# Altium schematic symbol library openmv-ae3.SCHLIB: 91 symbols
Pins are listed as number, name and electrical type; pins without a type are passive.

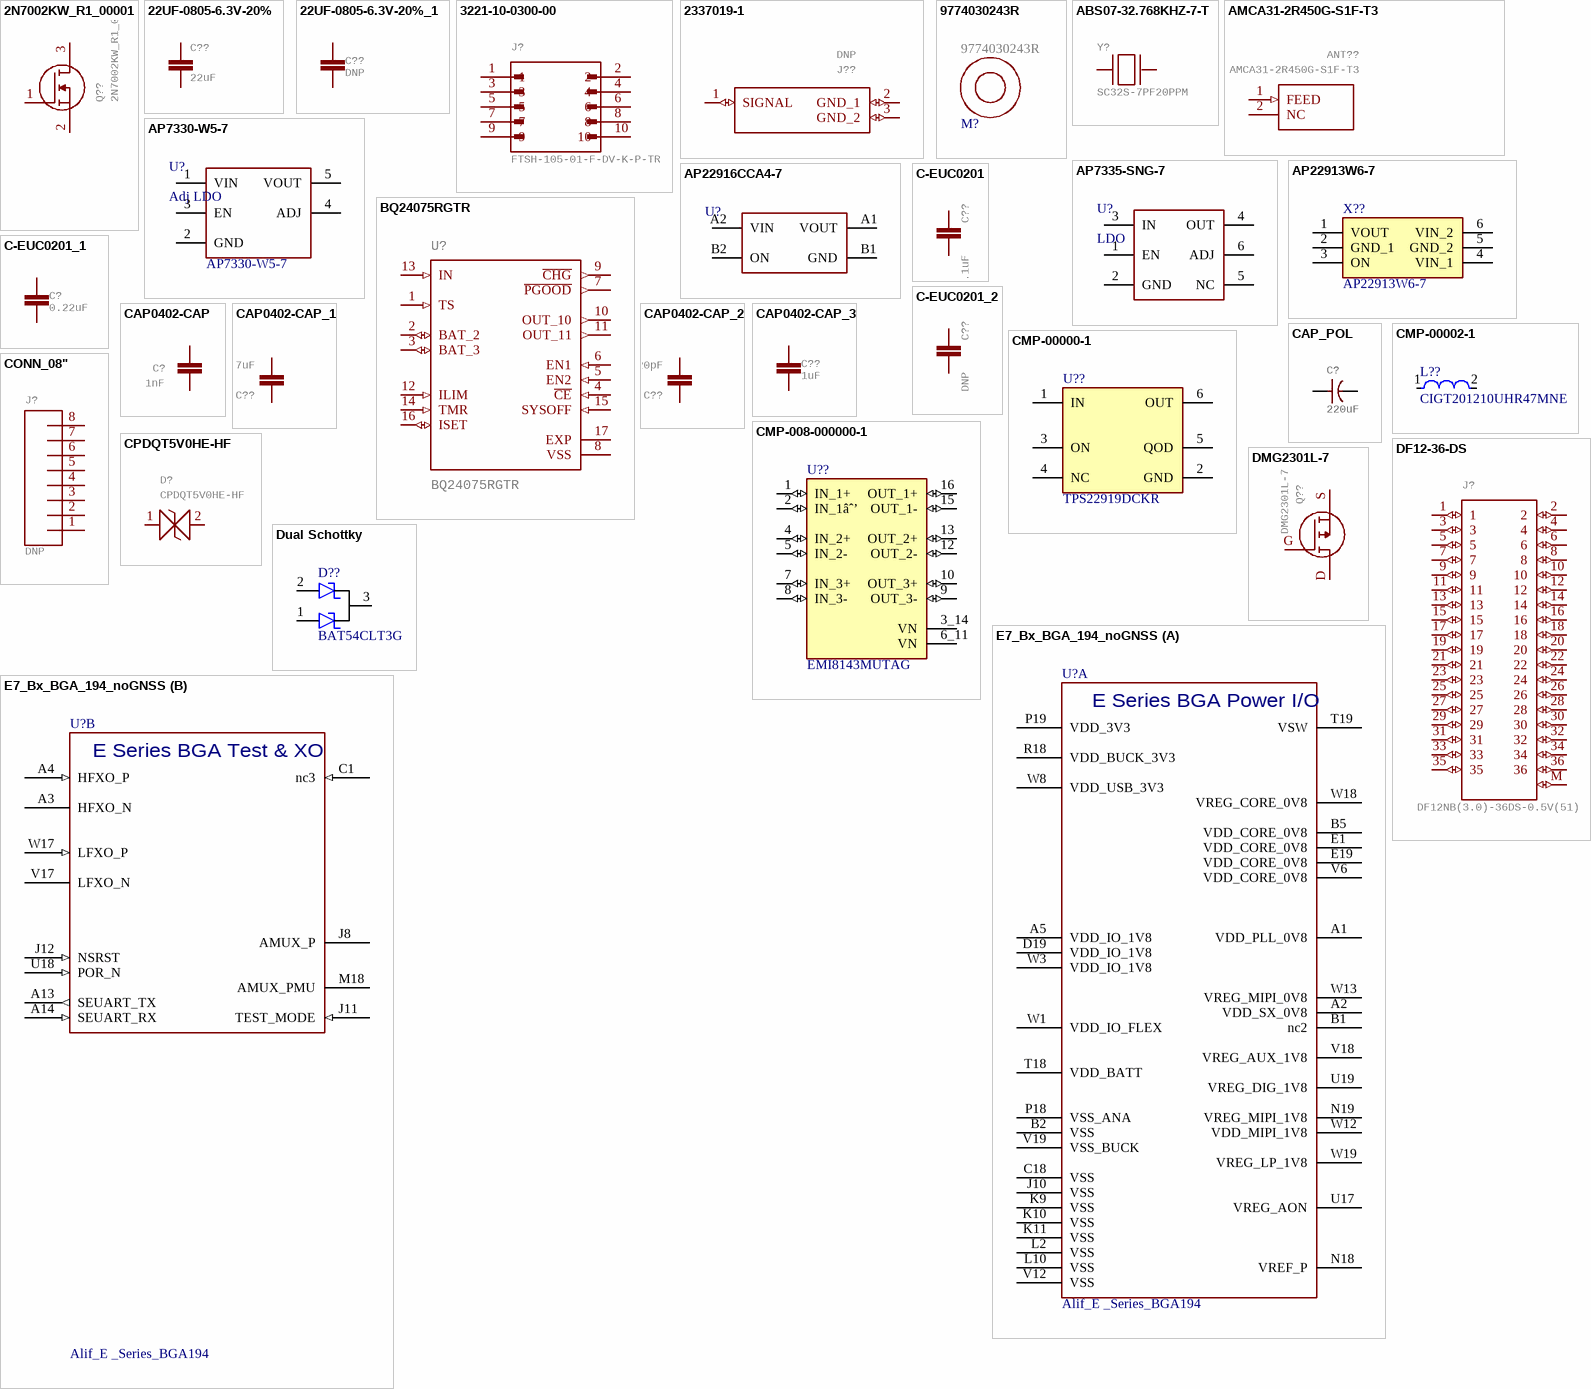
[diagram p0: symbols 2N7002KW_R1_00001 to E7_Bx_BGA_194_noGNSS]

## 2N7002KW_R1_00001
designator Q??
MOSFET 60V N-Channel Enhancement Mode MOSFET - ESD Protected   Source:  Datasheet; MANUFACTURER_NAME: PANJIT; GateName_1: G$1; SymbolName_1: 2N7002KW_R1_00001; LibraryName: 2N7002KW_R1_00001; DeviceSetName: 2N7002KW_R1_00001; HEIGHT: 1.1mm; MANUFACTURER_PART_NUMBER: 2N7002KW_R1_00001; MOUSER_PART_NUMBER: 241-2N7002KWR100001; MOUSER_PRICE-STOCK: https://www.mouser.co.uk/ProductDetail/Panjit/2N7002KW_R1_00001?qs=sPbYRqrBIVliWKATqv7jNA%3D%3D; MPN: 2N7002KW_R1_00001; Part Number: 2N7002KW_R1_00001
footprint SOT65P210X110-3N
pins: 1 G (io), 2 S (io), 3 D (io)

## 22UF-0805-6.3V-20%
designator C??, comment 22uF
22ÂµF ceramic capacitors    A capacitor is a passive two-terminal electrical component used to store electrical energy temporarily in an electric field.; MPN: CL21A226MQQNNNE; GateName_1: G$1; SymbolName_1: CAP; DeviceName: -0805-6.3V-20%; PROD_ID: CAP-08402; LibraryName: SparkFun-Capacitors; DeviceSetName: 22UF; Part Number: CL21A226MQQNNNE
footprint 0805
pins: 1, 2

## 22UF-0805-6.3V-20%_1
designator C??, comment DNP
22ÂµF ceramic capacitors    A capacitor is a passive two-terminal electrical component used to store electrical energy temporarily in an electric field.; GateName_1: G$1; SymbolName_1: CAP; DeviceName: -0805-6.3V-20%; DeviceSetName: 22UF; PROD_ID: CAP-08402; LibraryName: SparkFun-Capacitors; MPN: DNP; Part Number: DNP
footprint 0805
pins: 1, 2

## 3221-10-0300-00
designator J?, comment FTSH-105-01-F-DV-K-P-TR
Check availability; GateName_1: G$1; SymbolName_1: 3221-10-0300-00; MF: CNC Tech; LibraryName: 3221-10-0300-00; DeviceSetName: 3221-10-0300-00; AVAILABILITY: In Stock; MP: FTSH-105-01-F-DV-K-P-TR; MPN: FTSH-105-01-F-DV-K-P-TR; PACKAGE: None; PRICE: None; PURCHASE-URL: https://pricing.snapeda.com/search/part/3221-10-0300-00/?ref=eda; Part Number: FTSH-105-01-F-DV-K-P-TR
footprint CNC_3221-10-0300-00
pins: 1, 2, 3, 4, 5, 6, 7, 8, 9, 10

## 2337019-1
designator J??, comment DNP
RF Connectors / Coaxial Connectors MicroCoax receptacle UMCC Gen 1   Source:  Datasheet; MANUFACTURER_NAME: TE Connectivity; GateName_1: G$1; SymbolName_1: 2337019-1; POPULATE: 0; LibraryName: 2337019-1; DeviceSetName: 2337019-1; HEIGHT: 1.4mm; MANUFACTURER_PART_NUMBER: 2337019-1; MOUSER_PART_NUMBER: 571-2337019-1; MOUSER_PRICE-STOCK: https://www.mouser.co.uk/ProductDetail/TE-Connectivity/2337019-1?qs=l4Gc20tDgJIuN7nS9rJkJw%3D%3D; MPN: DNP; Part Number: DNP
footprint 23370191-NO-3D (23370191)
pins: 1 SIGNAL (io), 2 GND_1 (io), 3 GND_2 (io)

## 9774030243R
designator M?
M2 3mm Standoff; GateName_1: G$1; SymbolName_1: 9774030243R; LibraryName: 9774030243R; DeviceSetName: 9774030243R; MPN: 9774030243R; Part Number: 9774030243R
footprint 9774030243R (Round Standoff Threaded M2x0.4 Steel 0.118" (3.00mm))

## ABS07-32.768KHZ-7-T
designator Y?, comment SC32S-7PF20PPM
Check availability; GateName_1: G$1; SymbolName_1: ABS07-32.768KHZ-7-T; MF: Abracon; LibraryName: ABS07-32.768KHZ-7-T; DeviceSetName: ABS07-32.768KHZ-7-T; AVAILABILITY: In Stock; MP: ABS07-32.768KHZ-7-T; MPN: SC32S-7PF20PPM; PACKAGE: SMD-2 Abracon LLC; PRICE: None; PURCHASE-URL: https://pricing.snapeda.com/search/part/ABS07-32.768KHZ-7-T/?ref=eda; Part Number: SC32S-7PF20PPM
footprint XTAL_ABS07-32.768KHZ-7-T
pins: 1, 2

## AMCA31-2R450G-S1F-T3
designator ANT??
ABRACON - AMCA31-2R450G-S1F-T3 - ANTENNA, CHIP, 2.45GHZ, 50 OHM, 1206   Source:  Datasheet; GateName_1: G$1; SymbolName_1: AMCA31-2R450G-S1F-T3; LibraryName: AMCA31-2R450G-S1F-T3; DeviceSetName: AMCA31-2R450G-S1F-T3; HEIGHT: 1.4mm; MANUFACTURER_NAME: ABRACON; MANUFACTURER_PART_NUMBER: AMCA31-2R450G-S1F-T3; MOUSER_PART_NUMBER: 815-CA312R450GS1FT3; MOUSER_PRICE-STOCK: https://www.mouser.co.uk/ProductDetail/ABRACON/AMCA31-2R450G-S1F-T3?qs=AAveGqk956GLuOddQEK40Q%3D%3D; MPN: AMCA31-2R450G-S1F-T3; Part Number: AMCA31-2R450G-S1F-T3
footprint ANTC3216X140N
pins: 1 FEED (in), 2 NC

## AP7330-W5-7
designator U?, comment Adj LDO  MPN: AP7330-W5-7
MF: Diodes Inc
footprint SOT-23-5
pins: 1 VIN, 2 GND, 3 EN, 4 ADJ, 5 VOUT

## AP7335-SNG-7
designator U?, comment LDO
MPN: AP7335-SNG-7; MF: Diodes Inc
footprint DFN2020-6
pins: 1 EN, 2 GND, 3 IN, 4 OUT, 5 NC, 6 ADJ

## AP22913W6-7
designator X??
Power Switch ICs - Power Distribution Load Switch SOT26 T&R 3K; Manufacturer_Name: Diodes Inc.; Geometry.Height: 1.4mm; Mouser Part Number: 621-AP22913W6-7; Mouser Price/Stock: https://www.mouser.co.uk/ProductDetail/Diodes-Incorporated/AP22913W6-7?qs=PzGy0jfpSMucZeQU8eqr6Q%3D%3D; Manufacturer_Part_Number: AP22913W6-7; Datasheet Link: https://www.arrow.com/en/products/ap22913w6-7/diodes-incorporated; Part Number: AP22913W6-7; MPN: AP22913W6-7
footprint SOT95P285X140-6N
pins: 1 VOUT, 2 GND_1, 3 ON, 4 VIN_1, 5 GND_2, 6 VIN_2

## AP22916CCA4-7
designator U?, comment PMOS Load Switch  (value not drawn)
MPN: AP22916CCA4-7; MF: Diodes Inc
footprint AP22916CCA4-7
pins: A1 VOUT, A2 VIN, B1 GND, B2 ON

## BQ24075RGTR
designator U?
Standalone 1-cell 1.5-A linear charger, Power Path, 4.2-V VBAT and 5.5-V VOUT 16-VQFN -40 to 85  Check availability; GateName_1: G$1; MF: Texas Instruments; SymbolName_1: BQ24075RGTR; LibraryName: BQ24075RGTR; DeviceSetName: BQ24075RGTR; AVAILABILITY: In Stock; MP: BQ24075RGTR; MPN: BQ24075RGTR; PACKAGE: VQFN-16 Texas Instruments; PRICE: None; PURCHASE-URL: https://pricing.snapeda.com/search/part/BQ24075RGTR/?ref=eda; Part Number: BQ24075RGTR
footprint QFN50P300X300X100-17N
pins: 1 TS (in), 2 BAT_2 (io), 3 BAT_3 (io), 4 ~{CE} (in), 5 EN2 (in), 6 EN1 (in), 7 ~{PGOOD} (out), 8 VSS (power), 9 ~{CHG} (out), 10 OUT_10 (out), 11 OUT_11 (out), 12 ILIM (in), 13 IN (in), 14 TMR (in), 15 SYSOFF (in), 16 ISET (io), 17 EXP (power)

## C-EUC0201
designator C??, comment 0.1uF
CAPACITOR, European symbol; MPN: C0402C104Z4VAC; GateName_1: G$1; SymbolName_1: C-EU; POPULARITY: 0; LibraryName: rcl; DeviceSetName: C-EU; SPICEPREFIX: C; Part Number: C0402C104Z4VAC
footprint 0402-CAP (Chip Capacitor, 2-Leads, Body  0402 (in) 1005 (mm), IPC Medium Density)
pins: 1, 2

## C-EUC0201_1
designator C?, comment 0.22uF
CAPACITOR, European symbol; MPN: GRM033R60J224ME15D; GateName_1: G$1; SymbolName_1: C-EU; DeviceName: C0201; POPULARITY: 0; LibraryName: rcl; DeviceSetName: C-EU; SPICEPREFIX: C; Part Number: GRM033R60J224ME15D
footprint C0201
pins: 1, 2

## C-EUC0201_2
designator C??, comment DNP
CAPACITOR, European symbol; GateName_1: G$1; SymbolName_1: C-EU; DeviceName: C0201; POPULARITY: 0; LibraryName: rcl; DeviceSetName: C-EU; MPN: DNP; SPICEPREFIX: C; Part Number: DNP
footprint C0201
pins: 1, 2

## CAP0402-CAP
designator C?, comment 1nF
Capacitor; MPN: VJ0402Y102JXACW1BC; GateName_1: G$1; SymbolName_1: CAP; DeviceName: 0402-CAP; LibraryName: sfe; DeviceSetName: CAP; Part Number: VJ0402Y102JXACW1BC
footprint 0402-CAP
pins: 1, 2

## CAP0402-CAP_1
designator C??, comment 4.7uF
CapacitorStandard 0603 ceramic capacitor, and 0.1" leaded capacitor.; MPN: JMK105BBJ475MV-F; GateName_1: G$1; SymbolName_1: CAP; DeviceName: 0402-CAP; LibraryName: sfe; DeviceSetName: CAP; Part Number: JMK105BBJ475MV-F
footprint 0402-CAP
pins: 1, 2

## CAP0402-CAP_2
designator C??, comment 120pF
CapacitorStandard 0603 ceramic capacitor, and 0.1" leaded capacitor.; MPN: CC0402KRX7R9BB121; GateName_1: G$1; SymbolName_1: CAP; DeviceName: 0402-CAP; LibraryName: sfe; DeviceSetName: CAP; Part Number: CC0402KRX7R9BB121
footprint 0402-CAP
pins: 1, 2

## CAP0402-CAP_3
designator C??, comment 1uF
CapacitorStandard 0402 ceramic capacitor, and 0.1" leaded capacitor.; MPN: GRM155R61E105KA12J; GateName_1: G$1; SymbolName_1: CAP; DeviceName: 0402-CAP; LibraryName: sfe; DeviceSetName: CAP; Part Number: GRM155R61E105KA12J
footprint 0402-CAP
pins: 1, 2

## CAP_POL
designator C?, comment 220uF
MANUFACTURER P/N: F930J227MBA; Part Number: F930J227MBA; DISTRIBUTOR: *; DISTRIBUTOR P/N: *; Value: 220uF; Parameter 1: *; MPN: F930J227MBA
footprint CAP-TANT-1411 (IPC 7351 1206)
pins: 1, 2

## CMP-00000-1
designator U??, comment TPS22919DCKR
5.5-V, 1.5-A, 90-mΩ load switch with adj. output discharge 6-SC70 -40 to 105; Fault Protection: Short Circuit; Output Configuration: High Side; Number of Outputs: 1; Max Output current: 1.5A; Interface: On/Off; Mounting Technology: Surface Mount; Max Operating Temperature: 125°C; Min Operating Temperature: -40°C; RoHS Compliant: Yes; Series: -; MPN: TPS22919DCKR; Part Number: TPS22919DCKR
footprint SC70-6
pins: 1 IN, 2 GND, 3 ON, 4 NC, 5 QOD, 6 OUT

## CMP-00002-1
designator L??, comment CIGT201210UHR47MNE
Power Inductor : LxW size(mm) 2012 Thickness1 Inductance (uH) 20%: 0.47; Current Rating: 3.6A; Shielding: Unshielded; Test Frequency: 1MHz; DC Resistance (DCR): 31mR; Saturation Current: 5.4A; Core Material: Metal,Composite; Value: 470nH; Tolerance: 20%; Packaging: Cut Tape; Case Code (Imperial): 0805; Case/Package: 0805; RoHS Compliant: Yes; Max Operating Temperature: 125°C; Series: CIGT; Min Operating Temperature: -40°C; Mounting Technology: Surface Mount; Case Code (Metric): 2012; MPN: CIGT201210UHR47MNE; Part Number: CIGT201210UHR47MNE
footprint 0805 (Chip Capacitor, Body 0805 imperial, 2.0x1.2mm, IPC Medium Density)
pins: 1, 2

## CMP-008-000000-1
designator U??, comment EMI8143MUTAG
6 Line Common Mode Choke Surface Mount 100mA DCR 6Ohm (Typ); MF: ON Semiconductor; Design Item ID: EMI8143MUTAG; Source: EMI8143MUTAG.SchLib; Package: XDFN-16 ON Semiconductor; Pin Count: 14; MP: EMI8143MUTAG; Component Type: Standard; Digi-Key_Part_Number: EMI8143MUTAGOSCT-ND; Value: *; SnapEDA_Link: https://www.snapeda.com/parts/EMI8143MUTAG/ON%20Semiconductor/view-part/182093/?ref=snap; Purchase-URL: https://pricing.snapeda.com/search/part/EMI8143MUTAG/?ref=eda; MPN: EMI8143MUTAG; Part Number: EMI8143MUTAG
footprint IC_EMI8143MUTAG
pins: 1 IN_1+ (io), 2 IN_1âˆ’ (io), 3_14 VN (power), 4 IN_2+ (io), 5 IN_2- (io), 6_11 VN (power), 7 IN_3+ (io), 8 IN_3- (io), 9 OUT_3- (io), 10 OUT_3+ (io), 12 OUT_2- (io), 13 OUT_2+ (io), 15 OUT_1- (io), 16 OUT_1+ (io)

## CONN_08"
designator J?, comment DNP
Multi connection point. Often used as Generic Header-pin footprint for 0.1 inch spaced/style header connections    On any of the 0.1 inch spaced packages, you can populate with these:  Break Away Headers - Straight (PRT-00116)   Break Away Male Headers - Right Angle (PRT-00553)   Female Headers (PRT-00115)   Break Away Headers - Machine Pin (PRT-00117)   Break Away Female Headers - Swiss Machine Pin (PRT-00743)   Arduino Stackable Header - 8 Pin (PRT-09279)        For SCREWTERMINALS and SPRING TERMINALS visit here:  Screw Terimnals on SparkFun.com (5mm/3.5mm/2.54mm spacing)       This device is also useful as a general connection point to wire up your design to another part of your project. Our various solder wires solder well into these plated through hole pads.  Hook-Up Wire - Assortment (Stranded, 22 AWG) (PRT-11375)   Hook-Up Wire - Assortment (Solid Core, 22 AWG) (PRT-11367)   View the entire wire category on our website here          Special notes:     Molex polarized connector foot print use with SKU : PRT-08231 with associated crimp pins and housings. 1MM SMD Version SKU: PRT-10208    NOTES ON THE VARIANTS LOCK and LOCK_LONGPADS... This footprint was designed to help hold the alignment of a through-hole component (i.e.  6-pin header) while soldering it into place. You may notice that each hole has been shifted either up or down by 0.005 of an inch from it's more standard position (which is a perfectly straight line).  This slight alteration caused the pins (the squares in the middle) to touch the edges of the holes.  Because they are alternating, it causes a "brace" to hold the component in place.  0.005 has proven to be the perfect amount of "off-center" position when using our standard breakaway headers. Although looks a little odd when you look at the bare footprint, once you have a header in there, the alteration is very hard to notice.  Also,if you push a header all the way into place, it is covered up entirely on the bottom side.; GateName_1: G$1; SymbolName_1: CONN_08; DeviceName: "; POPULATE: 0; PROD_ID: CONN-08438; LibraryName: SparkFun-Connectors; DeviceSetName: CONN_08; MPN: DNP; Part Number: DNP
footprint 1X08
pins: 1, 2, 3, 4, 5, 6, 7, 8

## CPDQT5V0HE-HF
designator D?
ESD Suppressors / TVS Diodes DIODE ESD 5VWM 65W 0402/SOD-923F   Source:  Datasheet; MANUFACTURER_NAME: Comchip Technology; GateName_1: G$1; SymbolName_1: CPDQT5V0HE-HF; LibraryName: CPDQT5V0HE-HF; DeviceSetName: CPDQT5V0HE-HF; HEIGHT: 0.42mm; MANUFACTURER_PART_NUMBER: CPDQT5V0HE-HF; MOUSER_PART_NUMBER: MOUSER_PART_NUMBER; MOUSER_PRICE-STOCK: MOUSER_PRICE-STOCK; MPN: CPDQT5V0HE-HF; Part Number: CPDQT5V0HE-HF
footprint CPDQT5V0HEHF
pins: 1 (io), 2 (io)

## DF12-36-DS
designator J?, comment DF12NB(3.0)-36DS-0.5V(51)
Header; GateName_1: G$1; SymbolName_1: DF12-36; DeviceSetName: DF12-36-DS; LibraryName: DF12-36-DS; MPN: DF12NB(3.0)-36DS-0.5V(51); Part Number: DF12NB(3.0)-36DS-0.5V(51)
footprint DF12-36-DS
pins: 1 (io), 2 (io), 3 (io), 4 (io), 5 (io), 6 (io), 7 (io), 8 (io), 9 (io), 10 (io), 11 (io), 12 (io), 13 (io), 14 (io), 15 (io), 16 (io), 17 (io), 18 (io), 19 (io), 20 (io), 21 (io), 22 (io), 23 (io), 24 (io), 25 (io), 26 (io), 27 (io), 28 (io), 29 (io), 30 (io), 31 (io), 32 (io), 33 (io), 34 (io), 35 (io), 36 (io), M (io)

## DMG2301L-7
designator Q??
GateName_1: G$1; HEIGHT: 1.1mm; MPN: DMG2301L-7; Part Number: DMG2301L-7
footprint SOT-23-3-FET
pins: D (io), G (io), S (io)

## Dual Schottky
designator D??  MPN: BAT54CLT3G  (hidden comment: Dual Schottky)
Value: ?V; Part Number: BAT54CLT3G
footprint SOT-23-3 (Footprint not found)
pins: 1, 2, 3

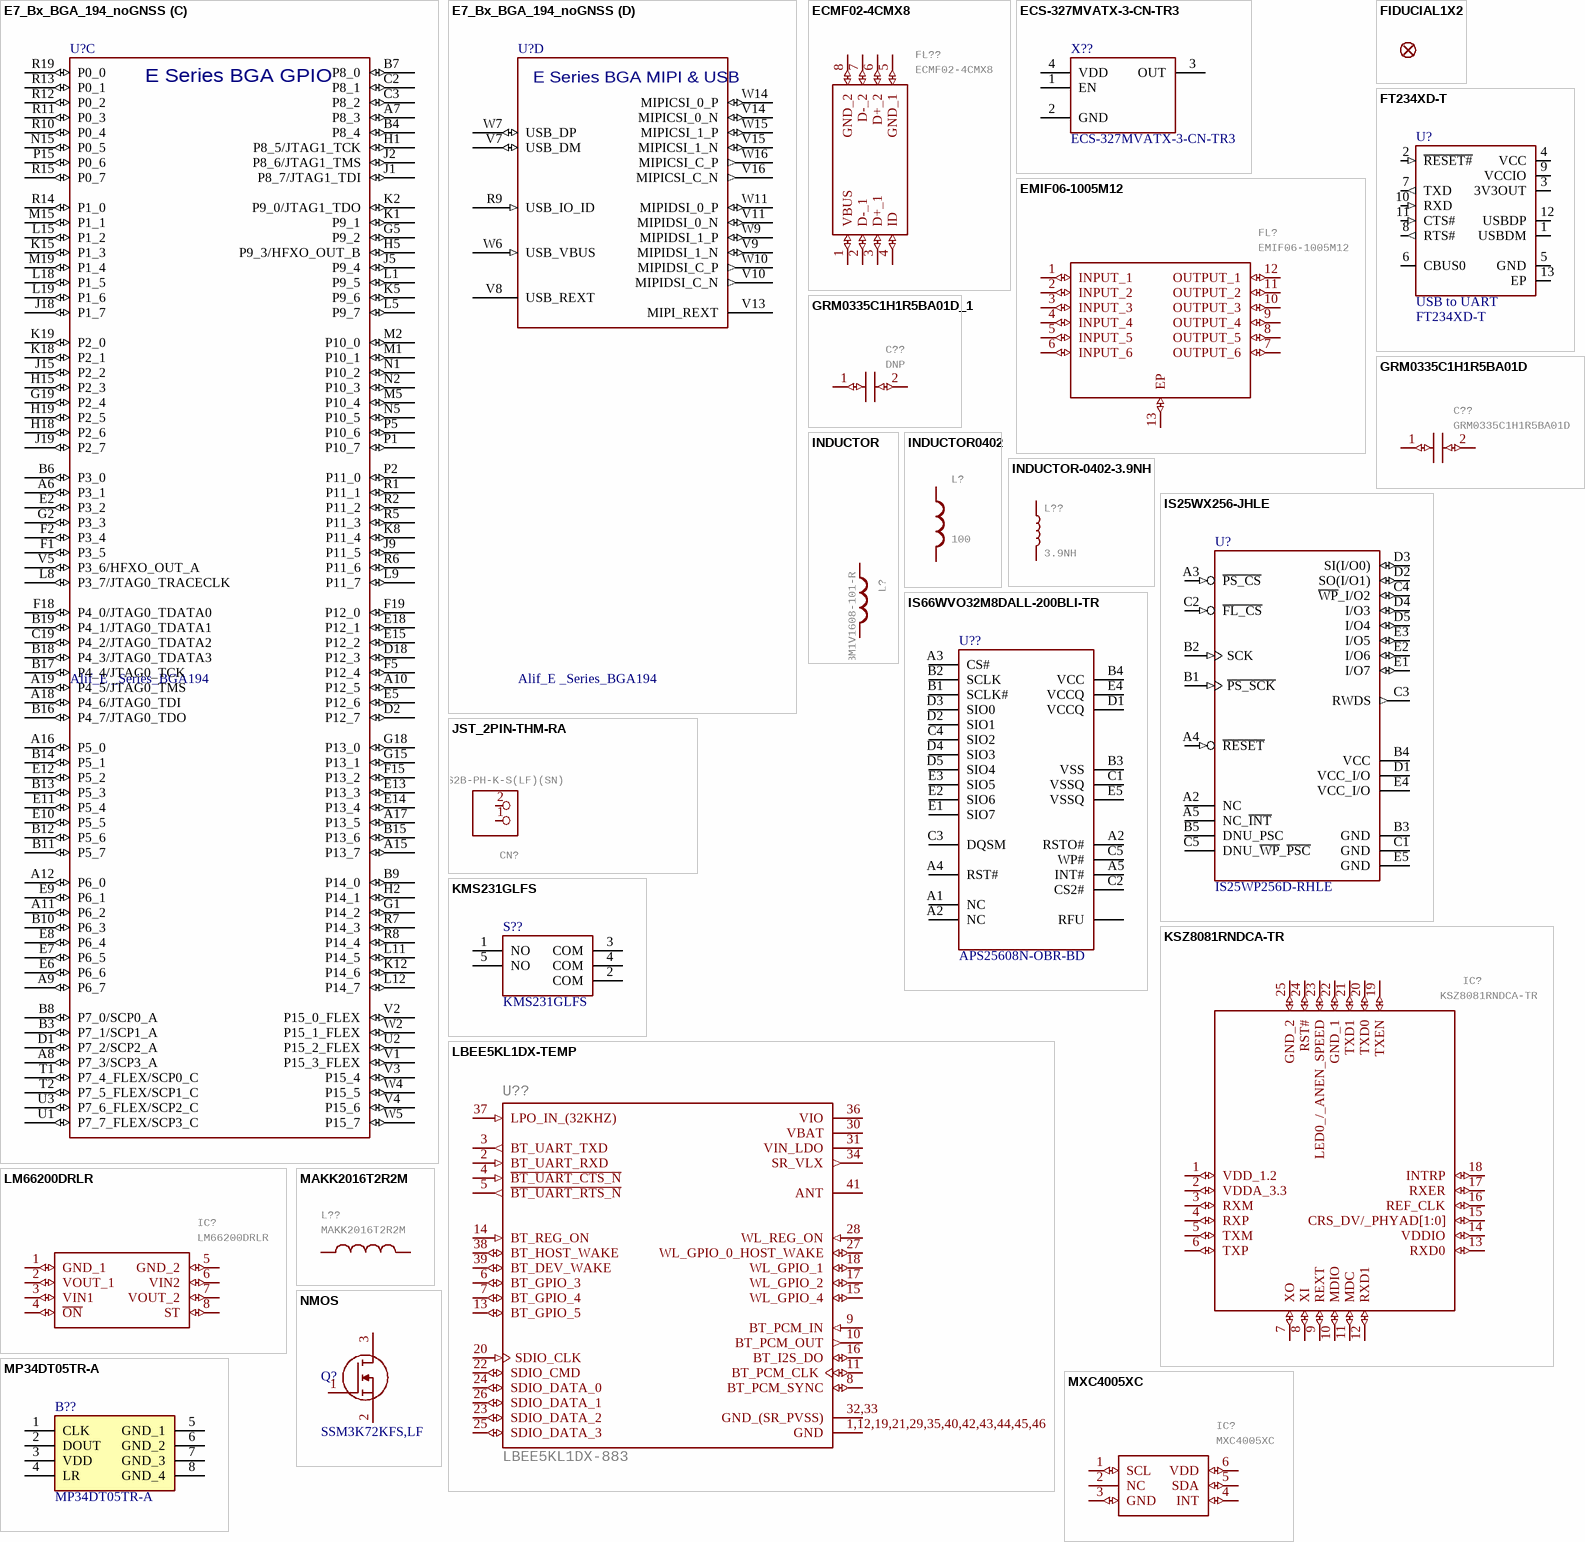
[diagram p1: symbols E7_Bx_BGA_194_noGNSS to NMOS]

## E7_Bx_BGA_194_noGNSS
designator U?, comment Alif_E _Series_BGA194
IC,Alif E7 MCU, Rev B silicon,BGA194; Manufacturer 1: Alif Semi; Manufacturer Part Number 1: AE302F80F55D5LE; Part Number: AE302F80F55D5LE; MPN: AE302F80F55D5LE
footprint BGA194 _CENTERED
part A pins: A1 VDD_PLL_0V8 (power), A2 VDD_SX_0V8 (power), A5 VDD_IO_1V8 (power), B1 nc2 (power), B2 VSS (power), B5 VDD_CORE_0V8 (power), C18 VSS (power), D19 VDD_IO_1V8 (power), E1 VDD_CORE_0V8 (power), E19 VDD_CORE_0V8 (power), J10 VSS (power), K9 VSS (power), K10 VSS (power), K11 VSS (power), L2 VSS (power), L10 VSS (power), N18 VREF_P, N19 VREG_MIPI_1V8 (power), P18 VSS_ANA (power), P19 VDD_3V3 (power), R18 VDD_BUCK_3V3 (power), T18 VDD_BATT (power), T19 VSW, U17 VREG_AON (power), U19 VREG_DIG_1V8 (power), V6 VDD_CORE_0V8 (power), V12 VSS (power), V18 VREG_AUX_1V8 (power), V19 VSS_BUCK (power), W1 VDD_IO_FLEX (power), W3 VDD_IO_1V8 (power), W8 VDD_USB_3V3 (power), W12 VDD_MIPI_1V8 (power), W13 VREG_MIPI_0V8 (power), W18 VREG_CORE_0V8 (power), W19 VREG_LP_1V8 (power)
part B pins: A3 HFXO_N, A4 HFXO_P (in), A13 SEUART_TX (out), A14 SEUART_RX (in), C1 nc3 (in) "GNSS Antenna Rx", J8 AMUX_P, J11 TEST_MODE (in), J12 NSRST (in), M18 AMUX_PMU, U18 POR_N (in), V17 LFXO_N, W17 LFXO_P (in)
part C pins: A6 P3_1 (io), A7 P8_3 (io), A8 P7_3/SCP3_A (io), A9 P6_7 (io), A10 P12_5 (io), A11 P6_2 (io), A12 P6_0 (io), A15 P13_7 (io), A16 P5_0 (io), A17 P13_5 (io), A18 P4_6/JTAG0_TDI (io), A19 P4_5/JTAG0_TMS (io), B3 P7_1/SCP1_A (io), B4 P8_4 (io), B6 P3_0 (io), B7 P8_0 (io), B8 P7_0/SCP0_A (io), B9 P14_0 (io), B10 P6_3 (io), B11 P5_7 (io), B12 P5_6 (io), B13 P5_3 (io), B14 P5_1 (io), B15 P13_6 (io), B16 P4_7/JTAG0_TDO (io), B17 P4_4/JTAG0_TCK (io), B18 P4_3/JTAG0_TDATA3 (io), B19 P4_1/JTAG0_TDATA1 (io), C2 P8_1 (io), C3 P8_2 (io), C19 P4_2/JTAG0_TDATA2 (io), D1 P7_2/SCP2_A (io), D2 P12_7 (io), D18 P12_3 (io), E2 P3_2 (io), E5 P12_6 (io), E6 P6_6 (io), E7 P6_5 (io), E8 P6_4 (io), E9 P6_1 (io), E10 P5_5 (io), E11 P5_4 (io), E12 P5_2 (io), E13 P13_3 (io), E14 P13_4 (io), E15 P12_2 (io), E18 P12_1 (io), F1 P3_5 (io), F2 P3_4 (io), F5 P12_4 (io), F15 P13_2 (io), F18 P4_0/JTAG0_TDATA0 (io), F19 P12_0 (io), G1 P14_2 (io), G2 P3_3 (io), G5 P9_2 (io), G15 P13_1 (io), G18 P13_0 (io), G19 P2_4 (io), H1 P8_5/JTAG1_TCK (io), H2 P14_1 (io), H5 P9_3/HFXO_OUT_B (io), H15 P2_3 (io), H18 P2_6 (io), H19 P2_5 (io), J1 P8_7/JTAG1_TDI (io), J2 P8_6/JTAG1_TMS (io), J5 P9_4 (io), J9 P11_5 (io), J15 P2_2 (io), J18 P1_7 (io), J19 P2_7 (io), K1 P9_1 (io), K2 P9_0/JTAG1_TDO (io), K5 P9_6 (io), K8 P11_4 (io), K12 P14_6 (io), K15 P1_3 (io), K18 P2_1 (io), K19 P2_0 (io), L1 P9_5 (io), L5 P9_7 (io), L8 P3_7/JTAG0_TRACECLK (io), L9 P11_7 (io), L11 P14_5 (io), L12 P14_7 (io), L15 P1_2 (io), L18 P1_5 (io), L19 P1_6 (io), M1 P10_1 (io), M2 P10_0 (io), M5 P10_4 (io), M15 P1_1 (io), M19 P1_4 (io), N1 P10_2 (io), N2 P10_3 (io), N5 P10_5 (io), N15 P0_5 (io), P1 P10_7 (io), P2 P11_0 (io), P5 P10_6 (io), P15 P0_6 (io), R1 P11_1 (io), R2 P11_2 (io), R5 P11_3 (io), R6 P11_6 (io), R7 P14_3 (io), R8 P14_4 (io), R10 P0_4 (io), R11 P0_3 (io), R12 P0_2 (io), R13 P0_1 (io), R14 P1_0 (io), R15 P0_7 (io), R19 P0_0 (io), T1 P7_4_FLEX/SCP0_C (io), T2 P7_5_FLEX/SCP1_C (io), U1 P7_7_FLEX/SCP3_C (io), U2 P15_2_FLEX (io), U3 P7_6_FLEX/SCP2_C (io), V1 P15_3_FLEX (io), V2 P15_0_FLEX (io), V3 P15_4 (io), V4 P15_6 (io), V5 P3_6/HFXO_OUT_A (io), W2 P15_1_FLEX (io), W4 P15_5 (io), W5 P15_7 (io)
part D pins: R9 USB_IO_ID (in), V7 USB_DM (io), V8 USB_REXT, V9 MIPIDSI_1_N (io), V10 MIPIDSI_C_N (out), V11 MIPIDSI_0_N (io), V13 MIPI_REXT, V14 MIPICSI_0_N (io), V15 MIPICSI_1_N (io), V16 MIPICSI_C_N (out), W6 USB_VBUS (in), W7 USB_DP (io), W9 MIPIDSI_1_P (io), W10 MIPIDSI_C_P (out), W11 MIPIDSI_0_P (io), W14 MIPICSI_0_P (io), W15 MIPICSI_1_P (io), W16 MIPICSI_C_P (out)
part A text: E Series BGA Power I/O
part B text: E Series BGA Test & XO
part C text: E Series BGA GPIO
part D text: E Series BGA MIPI & USB

## ECMF02-4CMX8
designator FL??
Common Mode Filter & ESD Prot. USB uQFN8 STMicroelectronics ECMF02 Series, Signal Filter uQFN SMD, Flat Contact Termination, 2.6 x 1.3 x 0.6mm   Source:  Datasheet; GateName_1: G$1; SymbolName_1: ECMF02-4CMX8; LibraryName: ECMF02-4CMX8; DeviceSetName: ECMF02-4CMX8; HEIGHT: mm; MANUFACTURER_NAME: STMicroelectronics; MANUFACTURER_PART_NUMBER: ECMF02-4CMX8; MOUSER_PART_NUMBER: 511-ECMF02-4CMX8; MOUSER_PRICE-STOCK: https://www.mouser.co.uk/ProductDetail/STMicroelectronics/ECMF02-4CMX8?qs=xYt8xtm2zhmK7GoDlDZR3A%3D%3D; MPN: ECMF02-4CMX8; Part Number: ECMF02-4CMX8
footprint ECMF024CMX8
pins: 1 VBUS (io), 2 D-_1 (io), 3 D+_1 (io), 4 ID (io), 5 GND_1 (io), 6 D+_2 (io), 7 D-_2 (io), 8 GND_2 (io)

## ECS-327MVATX-3-CN-TR3
designator X??
Part Number: ECS-327MVATX-3-CN-TR3; MPN: ECS-327MVATX-3-CN-TR3
footprint XTAL_3225
pins: 1 EN, 2 GND, 3 OUT, 4 VDD

## EMIF06-1005M12
designator FL?
EMI Filter Circuits 6lin lw cpcitnc EMI 45pF -35db @ 900MHz   Source:  Datasheet; MANUFACTURER_NAME: STMicroelectronics; GateName_1: G$1; SymbolName_1: EMIF06-1005M12; LibraryName: EMIF06-1005M12; DeviceSetName: EMIF06-1005M12; HEIGHT: 0.65mm; MANUFACTURER_PART_NUMBER: EMIF06-1005M12; MOUSER_PART_NUMBER: 511-EMIF06-1005M12; MOUSER_PRICE-STOCK: https://www.mouser.co.uk/ProductDetail/STMicroelectronics/EMIF06-1005M12?qs=VJaATVMq%252BXo0u09ZqtQg3A%3D%3D; MPN: EMIF06-1005M12; Part Number: EMIF06-1005M12
footprint SON40P150X250X65-13N
pins: 1 INPUT_1 (io), 2 INPUT_2 (io), 3 INPUT_3 (io), 4 INPUT_4 (io), 5 INPUT_5 (io), 6 INPUT_6 (io), 7 OUTPUT_6 (io), 8 OUTPUT_5 (io), 9 OUTPUT_4 (io), 10 OUTPUT_3 (io), 11 OUTPUT_2 (io), 12 OUTPUT_1 (io), 13 EP (io)

## FIDUCIAL1X2
designator FD?  (value not drawn)
Fiducial Alignment Points    Point-of-reference for pick-and-place machines and other optical instruments.; GateName_1: G$1; DeviceName: 1X2; SymbolName_1: FIDUCIAL; LibraryName: SparkFun-Aesthetics; DeviceSetName: FIDUCIAL
footprint FIDUCIAL-1X2

## FT234XD-T
designator U?, comment USB to UART  MPN: FT234XD-T
USB Bridge, USB to UART USB 2.0 UART Interface 12-DFN _3x3_; MF: FTDI,; Part Number: FT234XD-T
footprint SON45P300X300X80-13N
pins: 1 USBDM (io), 2 ~{RESET#} (in), 3 3V3OUT (power), 4 VCC (power), 5 GND (power), 6 CBUS0 (io), 7 TXD (out), 8 RTS# (out), 9 VCCIO (power), 10 RXD (in), 11 CTS# (in), 12 USBDP (io), 13 EP (power)

## GRM0335C1H1R5BA01D
designator C??
Chip Capacitor value 1R5   Source:  Datasheet; MANUFACTURER_NAME: Murata Electronics; GateName_1: G$1; SymbolName_1: GRM0335C1H1R5BA01D; LibraryName: GRM0335C1H1R5BA01D; DeviceSetName: GRM0335C1H1R5BA01D; HEIGHT: 0.33mm; MANUFACTURER_PART_NUMBER: GRM0335C1H1R5BA01D; MOUSER_PART_NUMBER: 81-GRM0335C1H1R5BA1D; MOUSER_PRICE-STOCK: https://www.mouser.co.uk/ProductDetail/Murata-Electronics/GRM0335C1H1R5BA01D?qs=7vGxPDjevFPFqveGwv%252BPUQ%3D%3D; MPN: GRM0335C1H1R5BA01D; Part Number: GRM0335C1H1R5BA01D
footprint CAPC0603X33N
pins: 1 (io), 2 (io)

## GRM0335C1H1R5BA01D_1
designator C??, comment DNP
Chip Capacitor value 1R5   Source:  Datasheet; MANUFACTURER_NAME: Murata Electronics; GateName_1: G$1; SymbolName_1: GRM0335C1H1R5BA01D; POPULATE: 0; LibraryName: GRM0335C1H1R5BA01D; DeviceSetName: GRM0335C1H1R5BA01D; HEIGHT: 0.33mm; MANUFACTURER_PART_NUMBER: GRM0335C1H1R5BA01D; MOUSER_PART_NUMBER: 81-GRM0335C1H1R5BA1D; MOUSER_PRICE-STOCK: https://www.mouser.co.uk/ProductDetail/Murata-Electronics/GRM0335C1H1R5BA01D?qs=7vGxPDjevFPFqveGwv%252BPUQ%3D%3D; MPN: DNP; Part Number: DNP
footprint C0201-NO-3D (Footprint not found)
pins: 1 (io), 2 (io)

## INDUCTOR
designator L?, comment MFBM1V1608-101-R
InductorsBasic Inductor/Choke - 0603 and 1206. Footprints are not proven and vary greatly between part numbers.; GateName_1: G$1; MPN: MFBM1V1608-101-R; Part Number: MFBM1V1608-101-R
footprint 0603-RES
pins: 1, 2

## INDUCTOR0402
designator L?, comment 100
InductorsBasic Inductor/Choke - 0603 and 1206. Footprints are not proven and vary greatly between part numbers.; MPN: MFBM1V1005-101-R; GateName_1: G$1; DeviceName: 0402; SymbolName_1: INDUCTOR; LibraryName: sfe; DeviceSetName: INDUCTOR; Part Number: MFBM1V1005-101-R
footprint C0402
pins: 1, 2

## INDUCTOR-0402-3.9NH
designator L??, comment 3.9NH
Inductors    Resist changes in electrical current. Basically a coil of wire.   SparkFun Products:  SparkFun Load Cell Amplifier - HX711  IOIO-OTG - V2.2; MPN: L-07C3N9SV6T; GateName_1: G$1; DeviceName: -0402-3.9NH; PROD_ID: NDUC-13457; SymbolName_1: INDUCTOR; LibraryName: SparkFun-Coils; DeviceSetName: INDUCTOR; Part Number: L-07C3N9SV6T
footprint 0402
pins: 1, 2

## IS25WX256-JHLE
designator U?, comment IS25WP256D-RHLE
IC, Flash,32MB x 8, Octal SPI, Ind Temp, 1.8V,24-BGA; MF: ISSI; Part Number: IS25WP256D-RHLE; MPN: IS25WP256D-RHLE
pins: A2 NC, A3 ~{PS_CS} (in), A4 ~{RESET} (in), A5 NC_~{INT}, B1 ~{PS_SCK} (in), B2 SCK (in), B3 GND (power), B4 VCC (power), B5 DNU_PSC, C1 GND (power), C2 ~{FL_CS} (in), C3 RWDS (out), C4 ~{WP}_I/O2 (io), C5 DNU_~{WP}_~{PSC}, D1 VCC_I/O (power), D2 SO(I/O1) (io), D3 SI(I/O0) (io), D4 I/O3 (io), D5 I/O4 (io), E1 I/O7 (io), E2 I/O6 (io), E3 I/O5 (io), E4 VCC_I/O (power), E5 GND (power)

## IS66WVO32M8DALL-200BLI-TR
designator U??, comment APS25608N-OBR-BD
MF: ISSI; MPN: APS25608N-OBR-BD; Part Number: APS25608N-OBR-BD
footprint 24-TBGA (Footprint not found)
pins: A1 NC, A2 NC, A2 RSTO#, A3 CS#, A4 RST#, A5 INT#, B1 SCLK#, B2 SCLK, B3 VSS, B4 VCC, C1 VSSQ, C2 CS2#, C3 DQSM, C4 SIO2, C5 RFU, C5 WP#, D1 VCCQ, D2 SIO1, D3 SIO0, D4 SIO3, D5 SIO4, E1 SIO7, E2 SIO6, E3 SIO5, E4 VCCQ, E5 VSSQ

## JST_2PIN-THM-RA
designator CN?, comment S2B-PH-K-S(LF)(SN)
JST 2-Pin Connectors of various flavors SMT-RA (S2B-PH-SM4) 4UConnector #17311  SMT  (B2B-PH-SM4)  THM-RA (S2B-PH)  THM  (B2B-PH); GateName_1: G$1; SymbolName_1: PINHD2; DeviceName: -THM-RA; DeviceSetName: JST_2PIN; LibraryName: adafruit-updated; MPN: S2B-PH-K-S(LF)(SN); Part Number: S2B-PH-K-S(LF)(SN)
footprint JST-PH-2-THM-RA
pins: 1 2, 2 1

## KMS231GLFS
designator S??
Part Number: KMS231GLFS; MPN: KMS231GLFS
footprint KMS231GLFS
pins: 1 NO, 2 COM, 3 COM, 4 COM, 5 NO

## KSZ8081RNDCA-TR
designator IC?
Ethernet ICs 10/100 BASE-TX Physical Layer Transceiver   Source:  Datasheet; MANUFACTURER_NAME: Microchip; GateName_1: G$1; SymbolName_1: KSZ8081RNDCA-TR; LibraryName: KSZ8081RNDCA-TR; DeviceSetName: KSZ8081RNDCA-TR; HEIGHT: 0.9mm; MANUFACTURER_PART_NUMBER: KSZ8081RNDCA-TR; MOUSER_PART_NUMBER: 998-KSZ8081RNDCATR; MOUSER_PRICE-STOCK: https://www.mouser.co.uk/ProductDetail/Microchip-Technology-Atmel/KSZ8081RNDCA-TR?qs=U6T8BxXiZAXLXXdn%2FieQKw%3D%3D; MPN: KSZ8081RNDCA-TR; Part Number: KSZ8081RNDCA-TR
footprint QFN50P400X400X90-25N
pins: 1 VDD_1.2 (io), 2 VDDA_3.3 (io), 3 RXM (io), 4 RXP (io), 5 TXM (io), 6 TXP (io), 7 XO (io), 8 XI (io), 9 REXT (io), 10 MDIO (io), 11 MDC (io), 12 RXD1 (io), 13 RXD0 (io), 14 VDDIO (io), 15 CRS_DV/_PHYAD[1:0] (io), 16 REF_CLK (io), 17 RXER (io), 18 INTRP (io), 19 TXEN (io), 20 TXD0 (io), 21 TXD1 (io), 22 GND_1 (io), 23 LED0_/_ANEN_SPEED (io), 24 RST# (io), 25 GND_2 (io)

## LBEE5KL1DX-TEMP
designator U??, comment LBEE5KL1DX-883
Broadcom Chipset for 802.11b/g/n + Bluetooth 4.1/EDR; GateName_1: G$1; SymbolName_1: LBEE5KL1DX-TEMP; MF: Murata Electronics; LibraryName: LBEE5KL1DX-TEMP; DeviceSetName: LBEE5KL1DX-TEMP; AVAILABILITY: Unavailable; MP: LBEE5KL1DX-TEMP; MPN: LBEE5KL1DX-883; PACKAGE: None; PRICE: None; Part Number: LBEE5KL1DX-883
footprint XCVR_LBEE5KL1DX-TEMP
pins: 1,12,19,21,29,35,40,42,43,44,45,46 GND (power), 2 BT_UART_RXD (in), 3 BT_UART_TXD (out), 4 ~{BT_UART_CTS_N} (in), 5 ~{BT_UART_RTS_N} (out), 6 BT_GPIO_3 (io), 7 BT_GPIO_4 (io), 8 BT_PCM_SYNC (io), 9 BT_PCM_IN (in), 10 BT_PCM_OUT (out), 11 BT_PCM_CLK (io), 13 BT_GPIO_5 (io), 14 BT_REG_ON (in), 15 WL_GPIO_4 (io), 16 BT_I2S_DO (io), 17 WL_GPIO_2 (io), 18 WL_GPIO_1 (io), 20 SDIO_CLK (in), 22 SDIO_CMD (io), 23 SDIO_DATA_2 (io), 24 SDIO_DATA_0 (io), 25 SDIO_DATA_3 (io), 26 SDIO_DATA_1 (io), 27 WL_GPIO_0_HOST_WAKE (io), 28 WL_REG_ON (in), 30 VBAT (power), 31 VIN_LDO (power), 32,33 GND_(SR_PVSS) (power), 34 SR_VLX (out), 36 VIO (power), 37 LPO_IN_(32KHZ) (in), 38 BT_HOST_WAKE (io), 39 BT_DEV_WAKE (io), 41 ANT

## LM66200DRLR
designator IC?
1.6-V to 5.5-V, 40-m, 2.5-A, low-IQ, dual ideal diode   Source:  Datasheet; MANUFACTURER_NAME: Texas Instruments; GateName_1: G$1; SymbolName_1: LM66200DRLR; LibraryName: LM66200DRLR; DeviceSetName: LM66200DRLR; HEIGHT: 0.6mm; MANUFACTURER_PART_NUMBER: LM66200DRLR; MOUSER_PART_NUMBER: 595-LM66200DRLR; MOUSER_PRICE-STOCK: https://www.mouser.co.uk/ProductDetail/Texas-Instruments/LM66200DRLR?qs=Rp5uXu7WBW90hnpZAkIOdQ%3D%3D; MPN: LM66200DRLR; Part Number: LM66200DRLR
footprint SOTFL50P160X60-8N
pins: 1 GND_1 (io), 2 VOUT_1 (io), 3 VIN1 (io), 4 ~{ON} (io), 5 GND_2 (io), 6 VIN2 (io), 7 VOUT_2 (io), 8 ST (io)

## MAKK2016T2R2M
designator L??
INDUCTOR, METAL CORE Check availability; GateName_1: G$1; MF: Taiyo Yuden; SymbolName_1: MAKK2016T2R2M; LibraryName: MAKK2016T2R2M; DeviceSetName: MAKK2016T2R2M; AVAILABILITY: In Stock; MP: MAKK2016T2R2M; MPN: MAKK2016T2R2M; PACKAGE: 2016 Taiyo Yuden; PRICE: None; PURCHASE-URL: https://pricing.snapeda.com/search/part/MAKK2016T2R2M/?ref=eda; Part Number: MAKK2016T2R2M
footprint INDC2016X100N
pins: 1, 2

## MP34DT05TR-A
designator B??
STMICROELECTRONICS - MP34DT05TR-A - MEMS MICROPHONE, 3.6V, HCLGA-4; Geometry.Height: 1mm; Mouser Part Number: 511-MP34DT05TR-A; Mouser Price/Stock: https://www.mouser.co.uk/ProductDetail/STMicroelectronics/MP34DT05TR-A?qs=BZBei1rCqCAMJfcA0UxAnA%3D%3D; Manufacturer_Name: STMicroelectronics; Manufacturer_Part_Number: MP34DT05TR-A; Datasheet Link: http://www.st.com/content/ccc/resource/technical/document/datasheet/group3/c7/90/d3/f6/b7/e7/40/c8/DM00415595/files/DM00415595.pdf/jcr:content/translations/en.DM00415595.pdf; Part Number: MP34DT05TR-A; MPN: MP34DT05TR-A
footprint MP34DT05TRA
pins: 1 CLK, 2 DOUT, 3 VDD, 4 LR, 5 GND_1, 6 GND_2, 7 GND_3, 8 GND_4

## MXC4005XC
designator IC?
Accelerometers Monolithic and Wafer Level Packaged Three-Axis Accelerometer   Source:  Datasheet; MANUFACTURER_NAME: MEMSIC; GateName_1: G$1; SymbolName_1: MXC4005XC; LibraryName: MXC4005XC; DeviceSetName: MXC4005XC; HEIGHT: 0.885mm; MANUFACTURER_PART_NUMBER: MXC4005XC; MOUSER_PART_NUMBER: 438-MXC4005XC; MOUSER_PRICE-STOCK: https://www.mouser.co.uk/ProductDetail/MEMSIC/MXC4005XC?qs=RcG8xmE7yp3iyYgWLmAtUw%3D%3D; MPN: MXC4005XC; Part Number: MXC4005XC
footprint MXC4005XC
pins: 1 SCL (io), 2 NC, 3 GND (io), 4 INT (io), 5 SDA (io), 6 VDD (io)

## NMOS
designator Q?  MPN: SSM3K72KFS,LF  (hidden comment: NMOS)
MF: Toshiba
footprint SSM-NMOS
pins: 1 G (io), 2 S (io), 3 D (io)

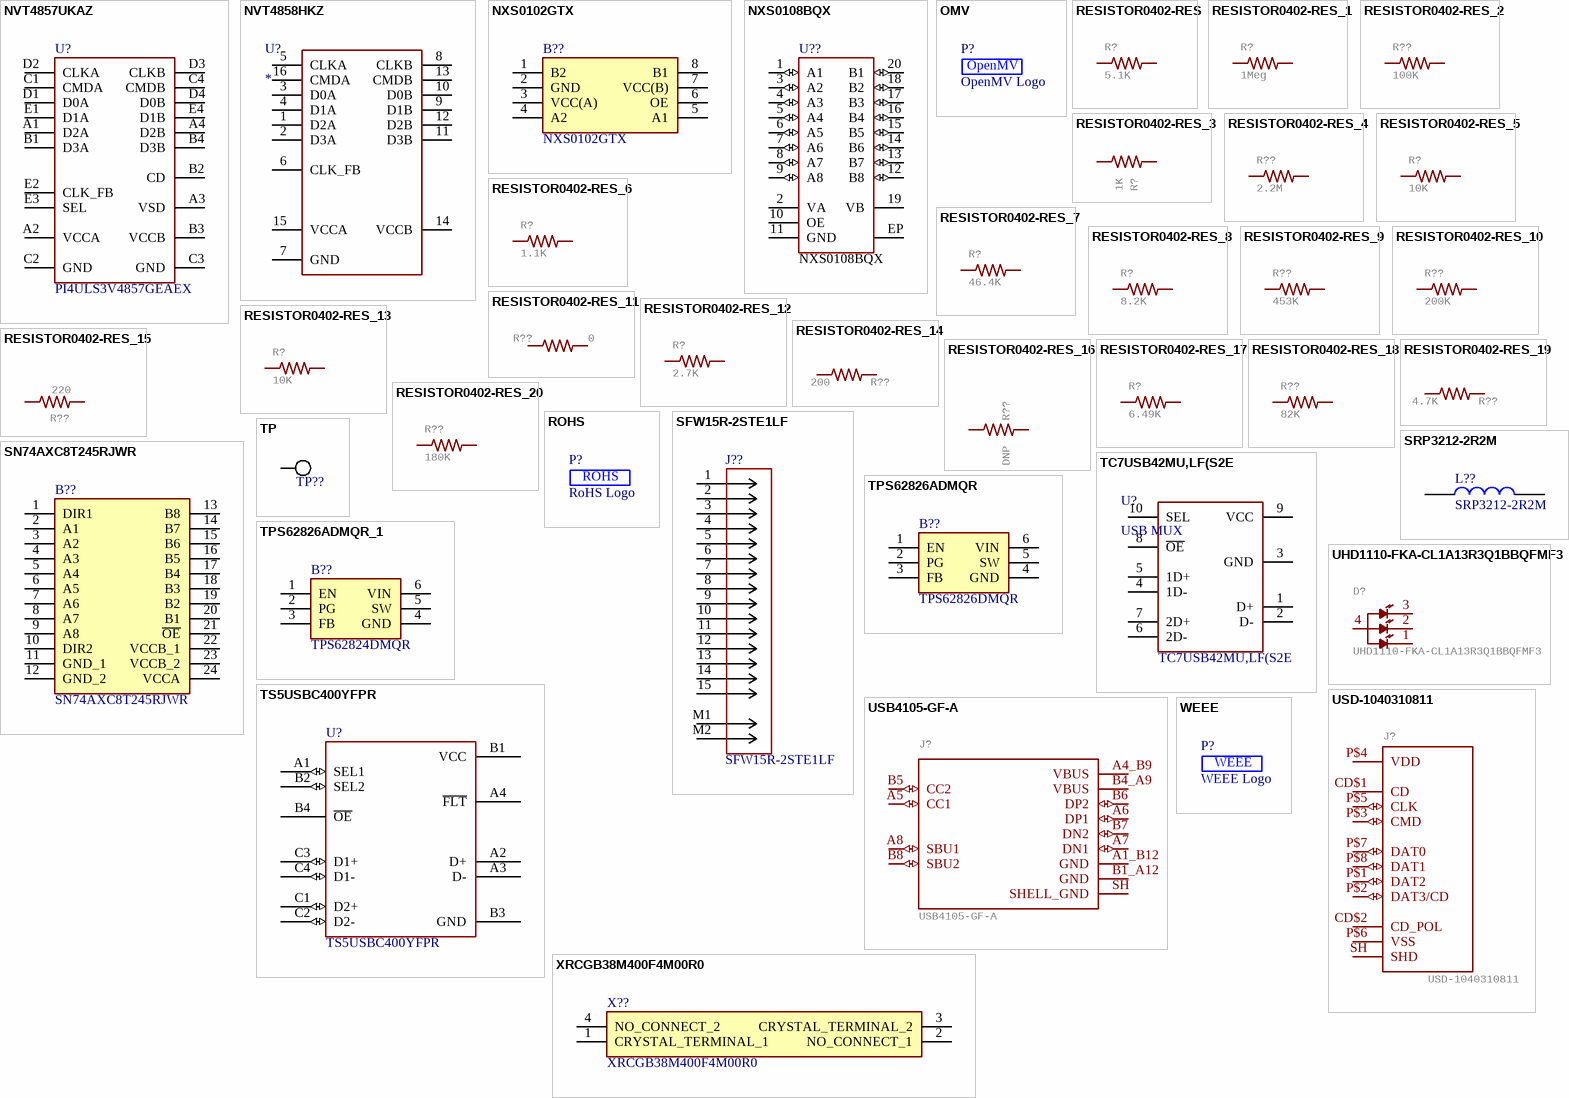
[diagram p2: symbols NVT4857UKAZ to XRCGB38M400F4M00R0]

## NVT4857UKAZ
designator U?, comment PI4ULS3V4857GEAEX
Can also be the PI4ULS3V4857GEAEX; MF: NXP; MPN: PI4ULS3V4857GEAEX; Part Number: PI4ULS3V4857GEAEX
footprint 20-WLCSP (Footprint not found)
pins: A1 D2A, A2 VCCA, A3 VSD, A4 D2B, B1 D3A, B2 CD, B3 VCCB, B4 D3B, C1 CMDA, C2 GND, C3 GND, C4 CMDB, D1 D0A, D2 CLKA, D3 CLKB, D4 D0B, E1 D1A, E2 CLK_FB, E3 SEL, E4 D1B

## NVT4858HKZ
designator U?
MPN: NVT4858HKZ; MF: NXP
footprint NVT4858HKZ (Footprint not found)
pins: 1 D2A, 2 D3A, 3 D0A, 4 D1A, 5 CLKA, 6 CLK_FB, 7 GND, 8 CLKB, 9 D1B, 10 D0B, 11 D3B, 12 D2B, 13 CMDB, 14 VCCB, 15 VCCA, 16 CMDA

## NXS0102GTX
designator B??
Dual supply translating transceiver; open drain; auto direction sensing; Manufacturer_Name: Nexperia; Geometry.Height: 0.5mm; Mouser Part Number: 771-NXS0102GTX; Mouser Price/Stock: https://www.mouser.co.uk/ProductDetail/Nexperia/NXS0102GTX?qs=GBLSl2AkirukzzJX55VgJA%3D%3D; Manufacturer_Part_Number: NXS0102GTX; Datasheet Link: https://assets.nexperia.com/documents/data-sheet/NXS0102.pdf
footprint NXS0102GTX
pins: 1 B2, 2 GND, 3 VCC(A), 4 A2, 5 A1, 6 OE, 7 VCC(B), 8 B1

## NXS0108BQX
designator U??
No Description Available; MF: Nexperia; Part Number: NXS0108BQX; MPN: NXS0108BQX
footprint DHVQFN20_SOT764-1_NEX
pins: 1 A1 (io), 2 VA (power), 3 A2 (io), 4 A3 (io), 5 A4 (io), 6 A5 (io), 7 A6 (io), 8 A7 (io), 9 A8 (io), 10 OE, 11 GND (power), 12 B8 (io), 13 B7 (io), 14 B6 (io), 15 B5 (io), 16 B4 (io), 17 B3 (io), 18 B2 (io), 19 VB (power), 20 B1 (io), EP EPAD

## OMV
designator P?, comment OpenMV Logo  (no BOM)
footprint OMV-LOGO-SMALL
text: OpenMV

## RESISTOR0402-RES
designator R?, comment 5.1K
ResistorBasic schematic elements and footprints for 0603, 1206, and PTH resistors.; MPN: RC0402JR-075K1L; GateName_1: G$1; DeviceName: 0402-RES; SymbolName_1: RESISTOR; LibraryName: sfe; DeviceSetName: RESISTOR; Part Number: RC0402JR-075K1L
footprint 0402-RES
pins: 1, 2

## RESISTOR0402-RES_1
designator R?, comment 1Meg
Resistor; MPN: CRCW04021M00FKEDC; GateName_1: G$1; DeviceName: 0402-RES; SymbolName_1: RESISTOR; LibraryName: sfe; DeviceSetName: RESISTOR; Part Number: CRCW04021M00FKEDC
footprint 0402-RES
pins: 1, 2

## RESISTOR0402-RES_2
designator R??, comment 100K
ResistorBasic schematic elements and footprints for 0603, 1206, and PTH resistors.; MPN: AC0402FR-07100KL; GateName_1: G$1; DeviceName: 0402-RES; SymbolName_1: RESISTOR; LibraryName: sfe; DeviceSetName: RESISTOR; Part Number: AC0402FR-07100KL
footprint 0402-RES
pins: 1, 2

## RESISTOR0402-RES_3
designator R?, comment 1K
ResistorBasic schematic elements and footprints for 0603, 1206, and PTH resistors.; MPN: CRCW04021K00FKEDC; GateName_1: G$1; DeviceName: 0402-RES; SymbolName_1: RESISTOR; LibraryName: sfe; DeviceSetName: RESISTOR; Part Number: CRCW04021K00FKEDC
footprint 0402-RES
pins: 1, 2

## RESISTOR0402-RES_4
designator R??, comment 2.2M
ResistorBasic schematic elements and footprints for 0603, 1206, and PTH resistors.; MPN: RC0402FR-072M2L; GateName_1: G$1; DeviceName: 0402-RES; SymbolName_1: RESISTOR; LibraryName: sfe; DeviceSetName: RESISTOR; Part Number: RC0402FR-072M2L
footprint 0402-RES
pins: 1, 2

## RESISTOR0402-RES_5
designator R?, comment 10K
ResistorBasic schematic elements and footprints for 0603, 1206, and PTH resistors.; MPN: AC0402FR-1310KL; GateName_1: G$1; DeviceName: 0402-RES; SymbolName_1: RESISTOR; LibraryName: sfe; DeviceSetName: RESISTOR; Part Number: AC0402FR-1310KL
footprint 0402-RES
pins: 1, 2

## RESISTOR0402-RES_6
designator R?, comment 1.1K
ResistorBasic schematic elements and footprints for 0603, 1206, and PTH resistors.; MPN: RC0402JR-071K1; GateName_1: G$1; DeviceName: 0402-RES; SymbolName_1: RESISTOR; LibraryName: sfe; DeviceSetName: RESISTOR; Part Number: RC0402JR-071K1
footprint 0402-RES
pins: 1, 2

## RESISTOR0402-RES_7
designator R?, comment 46.4K
ResistorBasic schematic elements and footprints for 0603, 1206, and PTH resistors.; MPN: WR04X4642FTL; GateName_1: G$1; DeviceName: 0402-RES; SymbolName_1: RESISTOR; LibraryName: sfe; DeviceSetName: RESISTOR; Part Number: WR04X4642FTL
footprint 0402-RES
pins: 1, 2

## RESISTOR0402-RES_8
designator R?, comment 8.2K
ResistorBasic schematic elements and footprints for 0603, 1206, and PTH resistors.; MPN: CR0402-FX-8201GLF; GateName_1: G$1; DeviceName: 0402-RES; SymbolName_1: RESISTOR; LibraryName: sfe; DeviceSetName: RESISTOR; Part Number: CR0402-FX-8201GLF
footprint 0402-RES
pins: 1, 2

## RESISTOR0402-RES_9
designator R??, comment 453K
ResistorBasic schematic elements and footprints for 0603, 1206, and PTH resistors.; MPN: CR0402-FX-4533GLF; GateName_1: G$1; DeviceName: 0402-RES; SymbolName_1: RESISTOR; LibraryName: sfe; DeviceSetName: RESISTOR; Part Number: CR0402-FX-4533GLF
footprint 0402-RES
pins: 1, 2

## RESISTOR0402-RES_10
designator R??, comment 200K
ResistorBasic schematic elements and footprints for 0603, 1206, and PTH resistors.; MPN: CRCW0402200KFKEDC; GateName_1: G$1; DeviceName: 0402-RES; SymbolName_1: RESISTOR; LibraryName: sfe; DeviceSetName: RESISTOR; Part Number: CRCW0402200KFKEDC
footprint 0402-RES
pins: 1, 2

## RESISTOR0402-RES_11
designator R??, comment 0
ResistorBasic schematic elements and footprints for 0603, 1206, and PTH resistors.; MPN: RC0402JR-070R; GateName_1: G$1; DeviceName: 0402-RES; SymbolName_1: RESISTOR; LibraryName: sfe; DeviceSetName: RESISTOR; Part Number: RC0402JR-070R
footprint 0402-RES
pins: 1, 2

## RESISTOR0402-RES_12
designator R?, comment 2.7K
ResistorBasic schematic elements and footprints for 0603, 1206, and PTH resistors.; MPN: AC0402JR-072K7L; GateName_1: G$1; DeviceName: 0402-RES; SymbolName_1: RESISTOR; LibraryName: sfe; DeviceSetName: RESISTOR; Part Number: AC0402JR-072K7L
footprint 0402-RES
pins: 1, 2

## RESISTOR0402-RES_13
designator R?, comment 10K
ResistorBasic schematic elements and footprints for 0603, 1206, and PTH resistors.; MPN: AC0402FR-1310K; GateName_1: G$1; DeviceName: 0402-RES; SymbolName_1: RESISTOR; LibraryName: sfe; DeviceSetName: RESISTOR; Part Number: AC0402FR-1310K
footprint 0402-RES
pins: 1, 2

## RESISTOR0402-RES_14
designator R??, comment 200
ResistorBasic schematic elements and footprints for 0603, 1206, and PTH resistors.; MPN: AC0402JR-07200RL; GateName_1: G$1; DeviceName: 0402-RES; SymbolName_1: RESISTOR; LibraryName: sfe; DeviceSetName: RESISTOR; Part Number: AC0402JR-07200RL
footprint 0402-RES
pins: 1, 2

## RESISTOR0402-RES_15
designator R??, comment 220
ResistorBasic schematic elements and footprints for 0603, 1206, and PTH resistors.; MPN: CRGCQ0402F220R; GateName_1: G$1; DeviceName: 0402-RES; SymbolName_1: RESISTOR; LibraryName: sfe; DeviceSetName: RESISTOR; Part Number: CRGCQ0402F220R
footprint 0402-RES
pins: 1, 2

## RESISTOR0402-RES_16
designator R??, comment DNP
ResistorBasic schematic elements and footprints for 0603, 1206, and PTH resistors.; GateName_1: G$1; DeviceName: 0402-RES; SymbolName_1: RESISTOR; LibraryName: sfe; DeviceSetName: RESISTOR
footprint 0402-RES
pins: 1, 2

## RESISTOR0402-RES_17
designator R?, comment 6.49K
ResistorBasic schematic elements and footprints for 0603, 1206, and PTH resistors.; MPN: CR0402-FX-6491GLF; GateName_1: G$1; DeviceName: 0402-RES; SymbolName_1: RESISTOR; LibraryName: sfe; DeviceSetName: RESISTOR; Part Number: CR0402-FX-6491GLF
footprint 0402-RES
pins: 1, 2

## RESISTOR0402-RES_18
designator R??, comment 82K
ResistorBasic schematic elements and footprints for 0603, 1206, and PTH resistors.; MPN: AC0402FR-0782KL; GateName_1: G$1; DeviceName: 0402-RES; SymbolName_1: RESISTOR; LibraryName: sfe; DeviceSetName: RESISTOR; Part Number: AC0402FR-0782KL
footprint 0402-RES
pins: 1, 2

## RESISTOR0402-RES_19
designator R??, comment 4.7K
ResistorBasic schematic elements and footprints for 0603, 1206, and PTH resistors.; MPN: RT0402FRE074K7L; GateName_1: G$1; DeviceName: 0402-RES; SymbolName_1: RESISTOR; LibraryName: sfe; DeviceSetName: RESISTOR; Part Number: RT0402FRE074K7L
footprint 0402-RES
pins: 1, 2

## RESISTOR0402-RES_20
designator R??, comment 180K
ResistorBasic schematic elements and footprints for 0603, 1206, and PTH resistors.; MPN: AC0402FR-07180KL; GateName_1: G$1; DeviceName: 0402-RES; SymbolName_1: RESISTOR; LibraryName: sfe; DeviceSetName: RESISTOR; Part Number: AC0402FR-07180KL
footprint 0402-RES
pins: 1, 2

## ROHS
designator P?, comment RoHS Logo  (no BOM)
footprint ROHS

## SFW15R-2STE1LF
designator J??
No Description Available; MF: JAE Electronics; Copyright: Copyright (C) 2023 Ultra Librarian. All rights reserved.; MPN: SFW15R-2STE1LF; Part Number: SFW15R-2STE1LF
footprint CON15_1X15_DRB_SFW_JAE
pins: 1, 2, 3, 4, 5, 6, 7, 8, 9, 10, 11, 12, 13, 14, 15, M1 16, M2 17

## SN74AXC8T245RJWR
designator B??
8-Bit Dual-Supply Bus Transceiver; Manufacturer_Name: Texas Instruments; Geometry.Height: 0.55mm; Mouser Part Number: 595-SN74AXC8T245RJWR; Mouser Price/Stock: https://www.mouser.co.uk/ProductDetail/Texas-Instruments/SN74AXC8T245RJWR?qs=lc2O%252BfHJPVZ0xWM%2FSARpgw%3D%3D; Manufacturer_Part_Number: SN74AXC8T245RJWR; Datasheet Link: http://www.ti.com/lit/gpn/sn74axc8t245; MPN: SN74AXC8T245RJWR; Part Number: SN74AXC8T245RJWR
footprint SN74AXC8T245RJWR
pins: 1 DIR1, 2 A1, 3 A2, 4 A3, 5 A4, 6 A5, 7 A6, 8 A7, 9 A8, 10 DIR2, 11 GND_1, 12 GND_2, 13 B8, 14 B7, 15 B6, 16 B5, 17 B4, 18 B3, 19 B2, 20 B1, 21 ~{OE}, 22 VCCB_1, 23 VCCB_2, 24 VCCA

## SRP3212-2R2M
designator L??
Ind,3.2x2.5x1mm,2.2uH?20%,4A,shd; Manufacturer_Name: Bourns; Geometry.Height: 1mm; Mouser Part Number: 652-SRP3212-2R2M; Mouser Price/Stock: https://www.mouser.co.uk/ProductDetail/Bourns/SRP3212-2R2M?qs=t7xnP681wgW9NT%2FfJNx1CA%3D%3D; Manufacturer_Part_Number: SRP3212-2R2M; Datasheet Link: https://www.bourns.com/pdfs/CVH.pdf; Part Number: SRP3212-2R2M; MPN: SRP3212-2R2M
footprint INDC2520X100N
pins: 1, 2

## TC7USB42MU,LF(S2E
designator U?, comment USB MUX  MPN: TC7USB42MU,LF(S2E
MF: Toshiba
footprint TC7USB42MU,LF(S2E (Footprint not found)
pins: 1 D+, 2 D-, 3 GND, 4 1D-, 5 1D+, 6 2D-, 7 2D+, 8 ~{OE}, 9 VCC, 10 SEL

## TP
designator TP??  (value not drawn)  (no BOM)
footprint TP_1p8 (0.8mm hold, 1.8mm pad)
footprint TP_THRU
pins: 1

## TPS62826ADMQR
designator B??, comment TPS62826DMQR
Switching Voltage Regulators 2.4-V to 5.5-V input, 3-A step-down converter with in 1.5-mm 1.5-mm QFN package; Manufacturer_Name: Texas Instruments; Geometry.Height: 1mm; Mouser Part Number: 595-TPS62826DMQR; Mouser Price/Stock: https://www.mouser.co.uk/ProductDetail/Texas-Instruments/TPS62826ADMQR?qs=KUoIvG%2F9Ila3pPUbedlDEw%3D%3D; Manufacturer_Part_Number: TPS62826DMQR; Datasheet Link: https://www.ti.com/lit/ds/symlink/tps62825a.pdf?ts=1608196934558&ref_url=https%253A%252F%252Fwww.ti.com%252Fstore%252Fti%252Fen%252Fp%252Fproduct%252F%253Fp%253DTPS62825ADMQR%2526keyMatch%253DTPS62825ADMQR%2526tisearch%253DSearch-EN-everything%2526usecase; MPN: TPS62826DMQR; Part Number: TPS62826DMQR
footprint TPS62826ADMQR
pins: 1 EN, 2 PG, 3 FB, 4 GND, 5 SW, 6 VIN

## TPS62826ADMQR_1
designator B??, comment TPS62824DMQR
Switching Voltage Regulators 2.4-V to 5.5-V input, 1-A step-down converter in 1.5-mm 1.5-mm QFN package; Manufacturer_Name: Texas Instruments; Geometry.Height: 1mm; Mouser Part Number: 595-TPS62824DMQR; Mouser Price/Stock: https://www.mouser.co.uk/ProductDetail/Texas-Instruments/TPS62826ADMQR?qs=KUoIvG%2F9Ila3pPUbedlDEw%3D%3D; Manufacturer_Part_Number: TPS62824DMQR; Datasheet Link: https://www.ti.com/lit/ds/symlink/tps62825a.pdf?ts=1608196934558&ref_url=https%253A%252F%252Fwww.ti.com%252Fstore%252Fti%252Fen%252Fp%252Fproduct%252F%253Fp%253DTPS62825ADMQR%2526keyMatch%253DTPS62825ADMQR%2526tisearch%253DSearch-EN-everything%2526usecase; MPN: TPS62824DMQR; Part Number: TPS62824DMQR
footprint TPS62826ADMQR
pins: 1 EN, 2 PG, 3 FB, 4 GND, 5 SW, 6 VIN

## TS5USBC400YFPR
designator U?
No Description Available; MF: Texas Instruments; Part Number: TS5USBC400YFPR; MPN: TS5USBC400YFPR
footprint YFP12_TEX
footprint YFP12_TEX
pins: A1 SEL1 (io), A2 D+, A3 D-, A4 ~{FLT}, B1 VCC (power), B2 SEL2 (io), B3 GND (power), B4 ~{OE} (power), C1 D2+ (io), C2 D2- (io), C3 D1+ (io), C4 D1- (io)

## UHD1110-FKA-CL1A13R3Q1BBQFMF3
designator D?
LED RGB SMD, SIZE 1 X 1 mm Check availability; GateName_1: G$1; MF: Cree Inc.; SymbolName_1: UHD1110-FKA-CL1A13R3Q1BBQFMF3; LibraryName: UHD1110-FKA-CL1A13R3Q1BBQFMF3; DeviceSetName: UHD1110-FKA-CL1A13R3Q1BBQFMF3; AVAILABILITY: In Stock; MP: UHD1110-FKA-CL1A13R3Q1BBQFMF3; MPN: UHD1110-FKA-CL1A13r3q1BBQFMF3; PACKAGE: 0404 Cree Inc.; PRICE: None; PURCHASE-URL: https://pricing.snapeda.com/search/part/UHD1110-FKA-CL1A13R3Q1BBQFMF3/?ref=eda; Part Number: UHD1110-FKA-CL1A13r3q1BBQFMF3
footprint LED_UHD1110-FKA-CL1A13R3Q1BBQFMF3
pins: 1 BLUE, 2 GREEN, 3 RED, 4 ANODE

## USB4105-GF-A
designator J?
USB-C (USB TYPE-C) USB 2.0 Receptacle Connector 24 (16+8 Dummy) Position Surface Mount, Right Angle; Through Hole  Check availability; GateName_1: G$1; MF: GCT; SymbolName_1: USB4105-GF-A; LibraryName: USB4105-GF-A; DeviceSetName: USB4105-GF-A; AVAILABILITY: In Stock; MP: USB4105-GF-A; MPN: USB4105-GF-A; PACKAGE: None; PRICE: None; PURCHASE-URL: https://pricing.snapeda.com/search/part/USB4105-GF-A/?ref=eda; Part Number: USB4105-GF-A
footprint GCT_USB4105-GF-A
pins: A1_B12 GND (power), A4_B9 VBUS (power), A5 CC1 (io), A6 DP1 (io), A7 DN1 (io), A8 SBU1 (io), B1_A12 GND (power), B4_A9 VBUS (power), B5 CC2 (io), B6 DP2 (io), B7 DN2 (io), B8 SBU2 (io), SH SHELL_GND (power)

## USD-1040310811
designator J?
uSD Slot; MPN: 104031-0811; GateName_1: G$1; SymbolName_1: USD; LibraryName: 1040310811; DeviceSetName: USD-1040310811; Part Number: 104031-0811
footprint 1040310811
pins: CD$1 CD (power), CD$2 CD_POL (power), P$1 DAT2 (io), P$2 DAT3/CD (io), P$3 CMD (io), P$4 VDD (power), P$5 CLK (io), P$6 VSS (power), P$7 DAT0 (io), P$8 DAT1 (io), SH SHD (power)

## WEEE
designator P?, comment WEEE Logo  (no BOM)
footprint WEEE

## XRCGB38M400F4M00R0
designator X??
2.0X1.6X0.65MM 38.4MHZ CRYSTAL; Manufacturer_Name: Murata Electronics; Geometry.Height: 0.7mm; Mouser Part Number: *; Mouser Price/Stock: *; Manufacturer_Part_Number: XRCGB38M400F4M00R0; Datasheet Link: http://www.murata.com/products/productdata/8801066811422/SPEC-XRCGB38M400F4M00R0.pdf; Part Number: XRCGB38M400F4M00R0; MPN: XRCGB38M400F4M00R0
footprint XRCGB38M400F4M00R0
pins: 1 CRYSTAL_TERMINAL_1, 2 NO_CONNECT_1, 3 CRYSTAL_TERMINAL_2, 4 NO_CONNECT_2